# EAGLE library part RF-BM-S02 (library szrfstar)
szrfstar.com
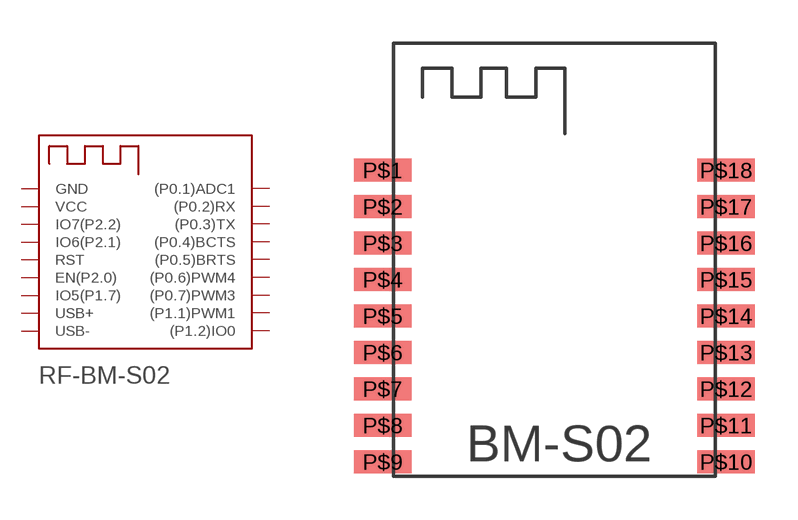
[diagram p0: symbol with the pads of RF-BM-S02; footprint RF-BM-S02]

Designator prefix BM-S02

## RF-BM-S02  [RF-BM-S02]
P$1  GND  pwr
P$2  VCC  pwr
P$3  IO7(P2.2)  out
P$4  IO6(P2.1)  out
P$5  RST  in
P$6  EN(P2.0)  in
P$7  IO5(P1.7)
P$8  USB+
P$9  USB-
P$10  (P1.2)IO0
P$11  (P1.1)PWM1  out
P$12  (P0.7)PWM3  out
P$13  (P0.6)PWM4  out
P$14  (P0.5)BRTS
P$15  (P0.4)BCTS  out
P$16  (P0.3)TX  out
P$17  (P0.2)RX  in
P$18  (P0.1)ADC1  in

## Footprint RF-BM-S02 (pad centres in mm)
smd 2 x 0.8: P$1 -0.381,10.668; P$2 -0.381,9.398; P$3 -0.381,8.128; P$4 -0.381,6.858; P$5 -0.381,5.588; P$6 -0.381,4.318; P$7 -0.381,3.048; P$8 -0.381,1.778; P$9 -0.381,0.508; P$10 11.581,0.508; P$11 11.581,1.778; P$12 11.581,3.048; P$13 11.581,4.318; P$14 11.581,5.588; P$15 11.581,6.858; P$16 11.581,8.128; P$17 11.581,9.398; P$18 11.581,10.668